# Altium footprint library lib_Robotronik.PcbLib: 35 footprints (part 1 of 3)
Each footprint in its own frame and in the unit in brackets; x right, y up, seen from the top. Pads: shape width x height; smd on the part's side, far side on the other; paste and mask are expansions set on the pad; w line width, h text height; cw(c..) or ccw(c..) is an arc to the next point about the centre after c.
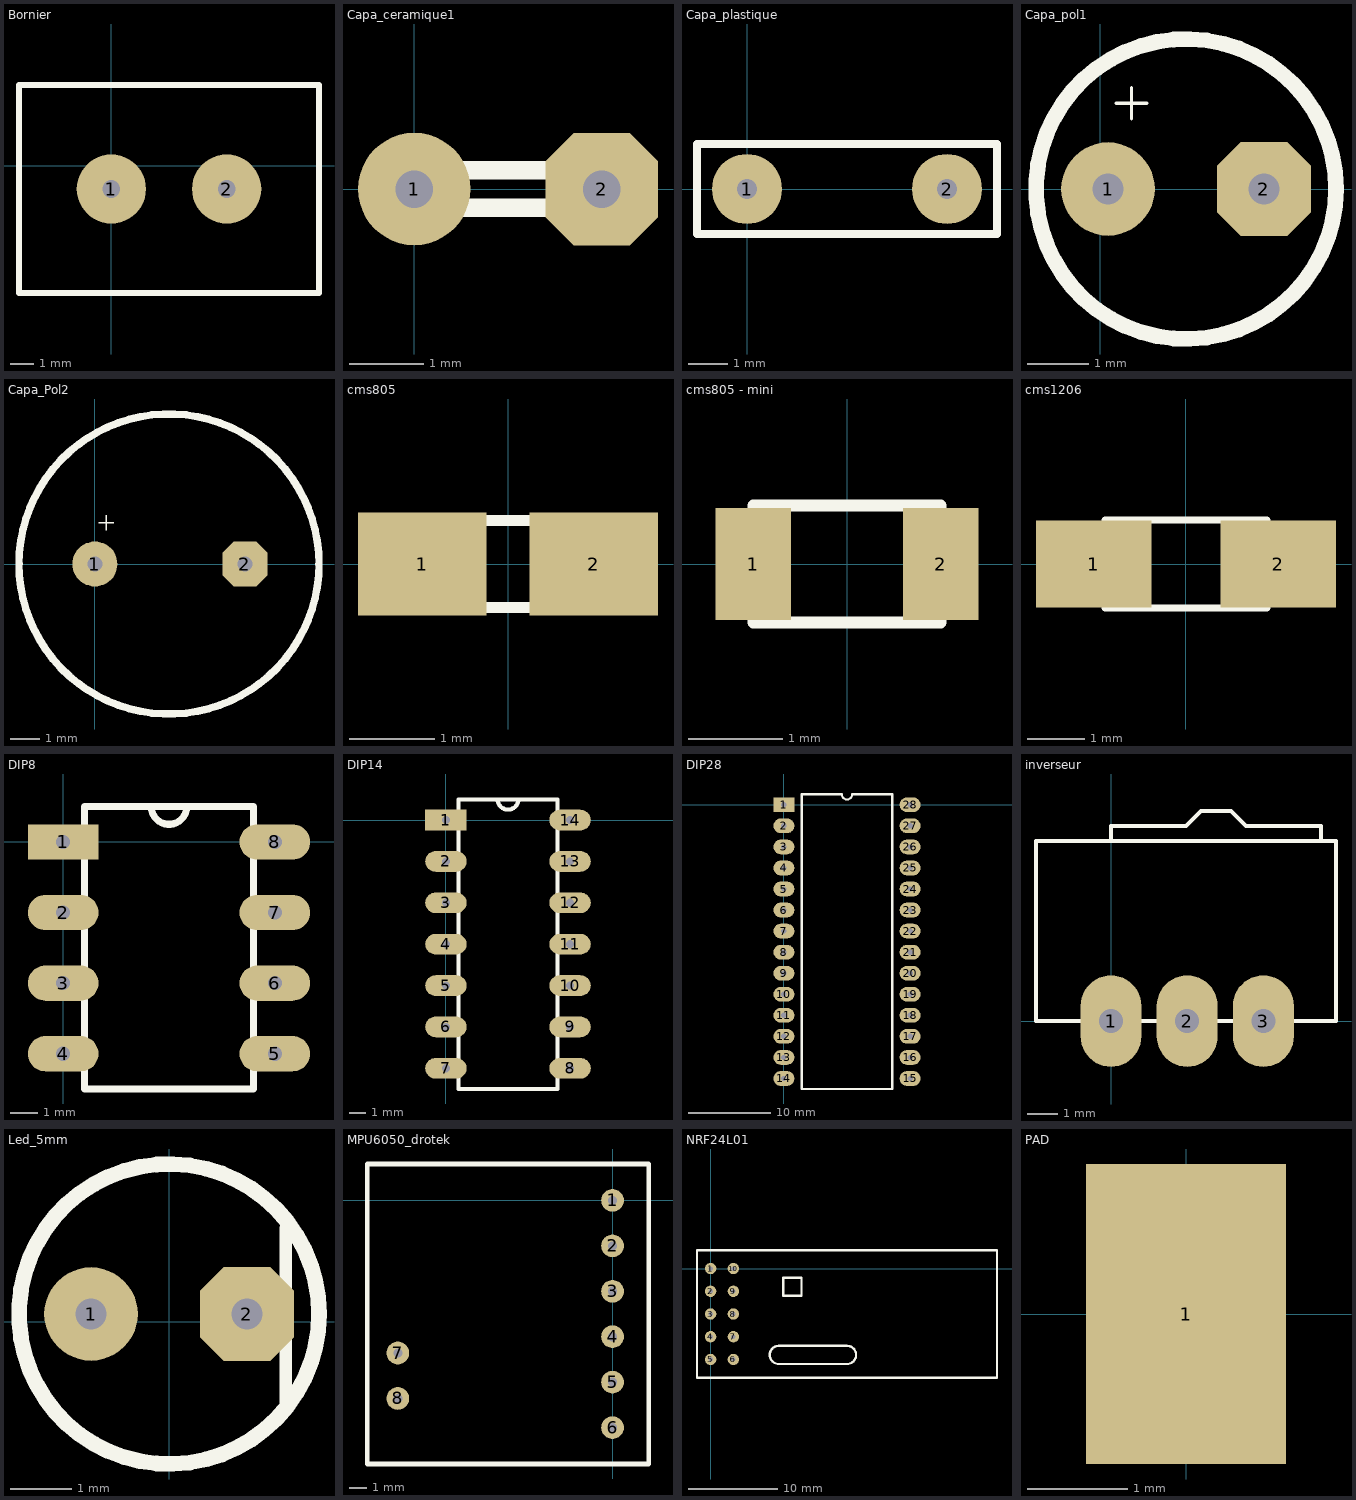
[diagram p0: the footprints below, top view; thin cyan lines are the x and y axes]

## Bornier [mm]
pads (2):
  round 3 hole 0.762: 1(0,-1) 2(5,-1)
Top Overlay:
  lines w0.254: -4,-5.5 -4,3.5 9,3.5 9,-5.5 -4,-5.5

## Capa_ceramique1 [mil]
pads (2):
  round 60 hole 20: 1(0,0)
  oct 60x60 hole 20: 2(100,0)
Top Overlay:
  lines w10: 0,-10 100,-10 ; 0,10 100,10

## Capa_plastique [mil]
pads (2):
  round 70 hole 20: 1(0,0) 2(200,0)
Top Overlay:
  lines w8: -50,-45 -50,45 250,45 250,-45 -50,-45

## Capa_pol1 [mil]
pads (2):
  round 60 hole 20: 1(5,0)
  oct 60x60 hole 20: 2(105,0)
Top Overlay:
  circle w10: c55,0 r96.18
  lines w2: 10,55 30,55 ; 20,45 20,65

## Capa_Pol2 [mil]
pads (2):
  round 60 hole 20: 1(0,0)
  oct 60x60 hole 20: 2(200,0)
Top Overlay:
  circle w10: c98.82,0 r200
  lines w2: 5,55 25,55 ; 15,45 15,65

## cms805 [mm]
pads (2):
  rect 1.5x1.2 smd: 1(-1,0) 2(1,0)
Top Overlay:
  lines w0.127: -0.762,-0.508 -0.762,0.508 0.762,0.508 0.762,-0.508 -0.762,-0.508

## cms805 - mini [mm]
pads (2):
  rect 0.8x1.2 smd: 1(-1,0) 2(1,0)
Top Overlay:
  lines w0.127: -1,-0.625 1,-0.625 1,0.625 -1,0.625 -1,-0.625

## cms1206 [mm]
pads (2):
  rect 2x1.5 smd: 1(-1.6,0) 2(1.6,0)
Top Overlay:
  lines w0.127: 0.889,-0.762 0.889,0.762 ; -1.397,-0.762 -1.397,0.762 1.397,0.762 1.397,-0.762 -1.397,-0.762

## DIP8 [mil]
pads (8):
  rect 100x50 hole 20: 1(0,0)
  oval 100x50 hole 20: 2(0,-100) 3(0,-200) 4(0,-300) 5(300,-300) 6(300,-200) 7(300,-100) 8(300,0)
Top Overlay:
  lines w10: 85,-350 215,-350 ; 85,50 125,50 ccw(c150,50) 175,50 215,50 ; 30,-350 30,50 270,50 270,-350 30,-350

## DIP14 [mil]
pads (14):
  rect 100x50 hole 20: 1(0,0)
  oval 100x50 hole 20: 2(0,-100) 3(0,-200) 4(0,-300) 5(0,-400) 6(0,-500) 7(0,-600) 8(300,-600) 9(300,-500) 10(300,-400) 11(300,-300) 12(300,-200) 13(300,-100) 14(300,0)
Top Overlay:
  lines w10: 85,-650 215,-650 ; 85,50 125,50 ccw(c150,50) 175,50 215,50 ; 270,40 270,50 ; 270,50 30,50 30,-650 270,-650 270,50

## DIP28 [mil]
pads (28):
  rect 100x70 hole 25: 1(0,0)
  oval 100x70 hole 25: 2(0,-100) 3(0,-200) 4(0,-300) 5(0,-400) 6(0,-500) 7(0,-600) 8(0,-700) 9(0,-800) 10(0,-900) 11(0,-1000) 12(0,-1100) 13(0,-1200) 14(0,-1300) 15(600,-1300) 16(600,-1200) 17(600,-1100) 18(600,-1000) 19(600,-900) 20(600,-800) 21(600,-700) 22(600,-600) 23(600,-500) 24(600,-400) 25(600,-300) 26(600,-200) 27(600,-100) 28(600,0)
Top Overlay:
  lines w10: 85,-1350 85,50 275,50 ccw(c300,50) 325,50 515,50 515,-1350 85,-1350

## inverseur [mil]
pads (3):
  oval 80x120 hole 31.5: 1(0,0) 2(100,0) 3(200,0)
Top Overlay:
  lines w5: 0,236.22 0,255.91 98.43,255.91 118.11,275.59 157.48,275.59 177.17,255.91 275.59,255.91 275.59,236.22 ; -98.43,0 -98.43,236.22 295.28,236.22 295.28,216.54 295.28,0 -98.43,0

## Led_5mm [mil]
pads (2):
  round 60 hole 20: 1(-50,5)
  oct 60x60 hole 20: 2(50,5)
Top Overlay:
  circle w10: c0,5 r96.18
  lines w8: 75,-55 75,60

## MPU6050_drotek [mil]
pads (8):
  round 50 hole 20: 1(0,0) 2(0,-100) 3(0,-200) 4(0,-300) 5(0,-400) 6(0,-500) 7(-472.44,-335.83) 8(-472.44,-435.83)
Top Overlay:
  lines w10: -540,-580 -540,80 80,80 80,-580 -540,-580

## NRF24L01 [mil]
pads (10):
  round 50 hole 20: 1(0,0) 2(0,-100) 3(0,-200) 4(0,-300) 5(0,-400) 6(100,-400) 7(100,-300) 8(100,-200) 9(100,-100) 10(100,0)
Top Overlay:
  lines w10: -60,-480 -60,80 1260,80 1260,-480 -60,-480 ; 260,-380 cw(c300,-380) 300,-340 600,-340 cw(c600,-380) 640,-380 cw(c600,-380) 600,-420 300,-420 cw(c300,-380) 260,-380 ; 320,-120 320,-40 400,-40 400,-120 320,-120

## PAD [mm]
pads (1):
  rect 2x3 smd: 1(0,0)